# Altium footprint library NPI54C3R3MTRF.PcbLib: 3 footprints
Each footprint in its own frame and in the unit in brackets; x right, y up, seen from the top. Pads: shape width x height; smd on the part's side, far side on the other; paste and mask are expansions set on the pad; w line width, h text height; cw(c..) or ccw(c..) is an arc to the next point about the centre after c.
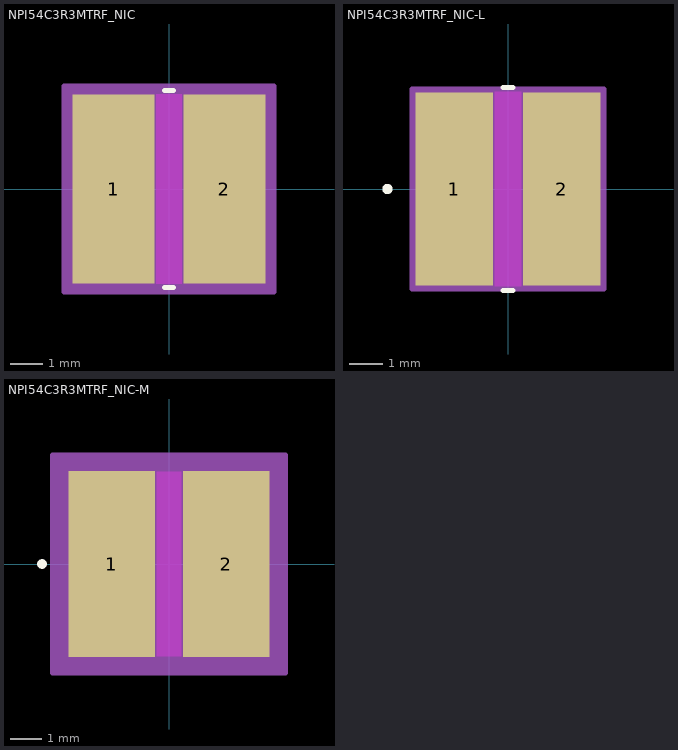
[diagram p0: the footprints below, top view; thin cyan lines are the x and y axes]

## NPI54C3R3MTRF_NIC [mil]
pads (2):
  rect 99x228 smd paste+0 mask+0: 1(-66.86,0) 2(66.86,0)
Top Layer keep-out:
  region: -15.36,-112 -15.36,112 15.36,112 15.36,-112
Top Overlay:
  lines w6: -5.25,-119 5.25,-119 ; -5.25,119 5.25,119
Keep-Out Layer:
  region: -15.36,-114 -15.36,114 15.36,114 15.36,-114
Mechanical 13:
  lines w1: -102.36,-114 -102.36,114 ; -102.36,-114 102.36,-114 ; -102.36,-114 -17.36,-114 -17.36,114 -102.36,114 ; -102.36,-114 -102.36,114 ; -102.36,114 102.36,114 ; 102.36,-114 102.36,114 ; 102.36,-114 102.36,114 ; 102.36,-114 17.36,-114 17.36,114 102.36,114
Mechanical 15:
  region: 126.36,-124 -126.36,-124 -126.36,124 126.36,124
  lines w6: -126.36,-124 126.36,-124 126.36,124 -126.36,124 -126.36,-124
3D body "NPI54C3R3MTRF_NIC.step": height 177.01, standoff 0, extent -102.36,-114.02 102.36,114.02

## NPI54C3R3MTRF_NIC-L [mil]
pads (2):
  rect 91x226 smd paste+0 mask+0: 1(-62.86,0) 2(62.86,0)
Top Layer keep-out:
  region: -15.36,-112 -15.36,112 15.36,112 15.36,-112
Top Overlay:
  circle w6: c-141.36,0 r3
  lines w6: -5.72,-119 5.72,-119 ; -5.72,119 5.72,119
Keep-Out Layer:
  region: -15.36,-114 -15.36,114 15.36,114 15.36,-114
Mechanical 13:
  circle w0: c-57.86,0 r3
  lines w1: -102.36,-114 -102.36,114 ; -102.36,-114 -17.36,-114 -17.36,114 -102.36,114 ; -102.36,-114 102.36,-114 ; -102.36,-114 -102.36,114 ; -102.36,114 102.36,114 ; 102.36,-114 17.36,-114 17.36,114 102.36,114 ; 102.36,-114 102.36,114 ; 102.36,-114 102.36,114
Mechanical 15:
  region: 112.36,-117 -112.36,-117 -112.36,117 112.36,117
  lines w6: -112.36,-117 -112.36,117 112.36,117 112.36,-117 -112.36,-117
3D body "NPI54C3R3MTRF_NIC.step": height 177.01, standoff 0, extent -102.36,-114.02 102.36,114.02

## NPI54C3R3MTRF_NIC-M [mil]
pads (2):
  rect 107x230 smd paste+0 mask+0: 1(-70.86,0) 2(70.86,0)
Top Layer keep-out:
  region: -15.36,-112 -15.36,112 15.36,112 15.36,-112
Top Overlay:
  circle w6: c-157.36,0 r3
Keep-Out Layer:
  region: -15.36,-114 -15.36,114 15.36,114 15.36,-114
Mechanical 13:
  circle w0: c-65.86,0 r3
  lines w1: -102.36,-114 -102.36,114 ; -102.36,-114 -17.36,-114 -17.36,114 -102.36,114 ; -102.36,-114 102.36,-114 ; -102.36,-114 -102.36,114 ; -102.36,114 102.36,114 ; 102.36,-114 17.36,-114 17.36,114 102.36,114 ; 102.36,-114 102.36,114 ; 102.36,-114 102.36,114
Mechanical 15:
  region: 144.36,-135 -144.36,-135 -144.36,135 144.36,135
  lines w6: -144.36,-135 -144.36,135 144.36,135 144.36,-135 -144.36,-135
3D body "NPI54C3R3MTRF_NIC.step": height 177.01, standoff 0, extent -102.36,-114.02 102.36,114.02